# Altium footprint library BBCMP-P16-M800X1000.PcbLib: 1 footprints
Each footprint in its own frame and in the unit in brackets; x right, y up, seen from the top. Pads: shape width x height; smd on the part's side, far side on the other; paste and mask are expansions set on the pad; w line width, h text height; cw(c..) or ccw(c..) is an arc to the next point about the centre after c.
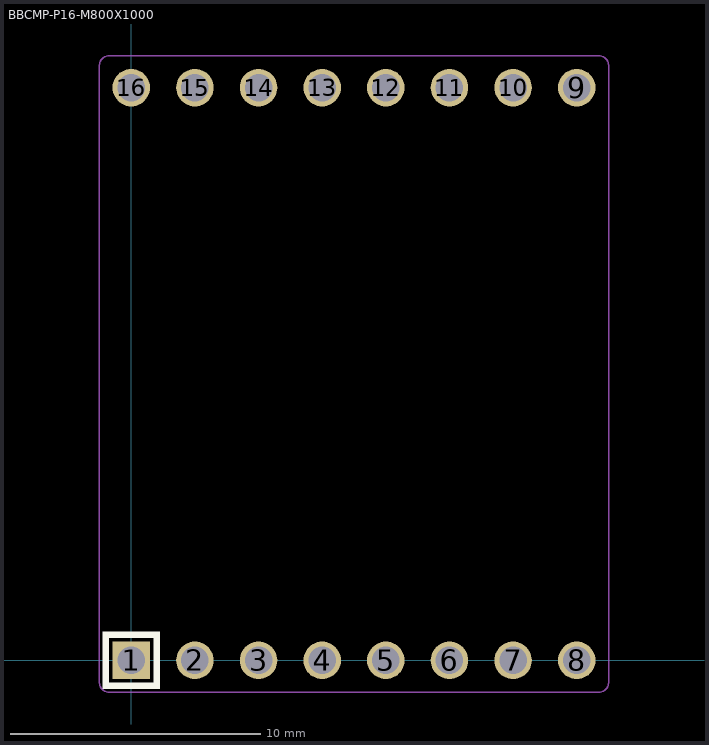
[diagram p0: the footprint, top view; thin cyan lines are the x and y axes]

## BBCMP-P16-M800X1000 [mm] "BB component, 800mil width, 1000mil high"
pads (16):
  rect 1.5x1.5 hole 1.1: 1(0,0)
  round 1.5 hole 1.1: 2(2.54,0) 3(5.08,0) 4(7.62,0) 5(10.16,0) 6(12.7,0) 7(15.24,0) 8(17.78,0) 9(17.78,22.86) 10(15.24,22.86) 11(12.7,22.86) 12(10.16,22.86) 13(7.62,22.86) 14(5.08,22.86) 15(2.54,22.86) 16(0,22.86)
Top Overlay:
  rectangle: -1.143,0.889 1.143,1.143
  rectangle: 0.889,-1.143 1.143,1.143
  rectangle: -1.143,-1.143 1.143,-0.889
  rectangle: -1.143,-1.143 -0.889,1.016
Mechanical 1:
  lines w0.05: -1.27,-0.889 ccw(c-0.889,-0.889) -0.889,-1.27 18.669,-1.27 ccw(c18.669,-0.889) 19.05,-0.889 19.05,23.749 ccw(c18.669,23.749) 18.669,24.13 -0.889,24.13 ccw(c-0.889,23.749) -1.27,23.749 -1.27,-0.889
3D body: height 8.54, standoff -3, extent -1.27,21.59 19.05,24.13
3D body: height 8.54, standoff -3, extent -1.27,-1.27 19.05,1.27